# Altium footprint library BuranComponent.PcbLib: 1 footprints
Each footprint in its own frame and in the unit in brackets; x right, y up, seen from the top. Pads: shape width x height; smd on the part's side, far side on the other; paste and mask are expansions set on the pad; w line width, h text height; cw(c..) or ccw(c..) is an arc to the next point about the centre after c.
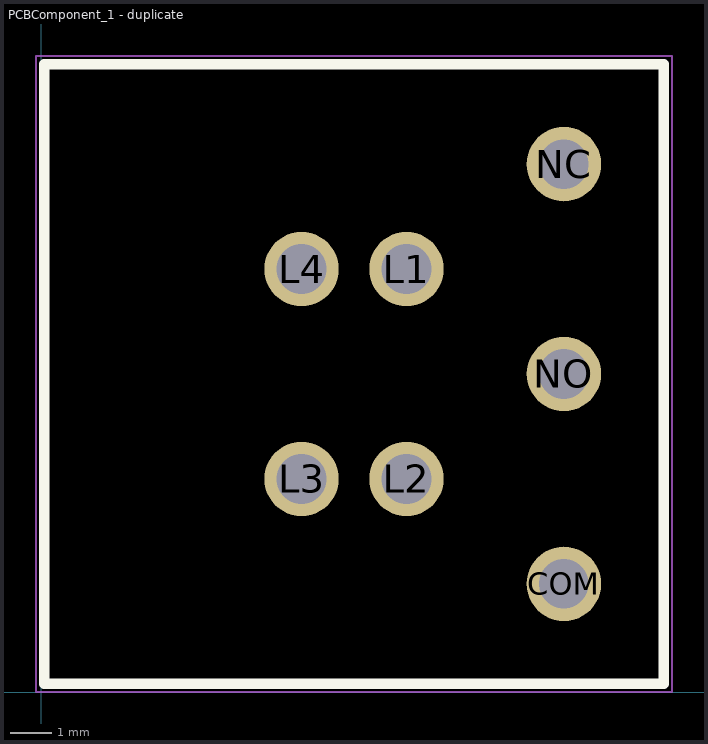
[diagram p0: the footprint, top view; thin cyan lines are the x and y axes]

## PCBComponent_1 - duplicate [mm]
pads (7):
  round 1.8 hole 1.2: COM(12.65,2.62) L1(8.84,10.24) L2(8.84,5.16) L3(6.3,5.16) L4(6.3,10.24) NC(12.65,12.78) NO(12.65,7.7)
Top Overlay:
  lines w0.254: 0.07,0.2 15.07,0.2 15.07,15.2 0.07,15.2 0.07,0.2
Mechanical 15:
  lines w0.05: -0.13,0 15.27,0 15.27,15.4 -0.13,15.4 -0.13,0